# Altium schematic symbol library 749020310.SchLib: 1 symbol
Pins are listed as number, name and electrical type; pins without a type are passive.

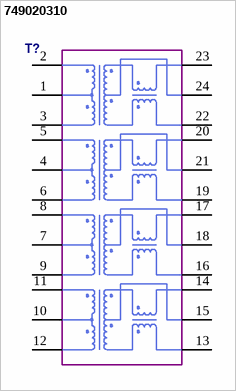
[diagram p0: symbol 749020310]

## 749020310
designator T?  (value not drawn)
pins: 1 CD1, 2 D1+, 3 D1-, 4 D1-, 5 D1-, 6 D1-, 7 D1-, 8 D1-, 9 D1-, 10 D1-, 11 D1-, 12 D1-, 13 D1-, 14 D1-, 15 D1-, 16 D1-, 17 D1-, 18 D1-, 19 D1-, 20 D1-, 21 D1-, 22 D1-, 23 D1-, 24 D1-